# EAGLE library part ELE02_MA06-1 (library ele02)
PIN HEADER
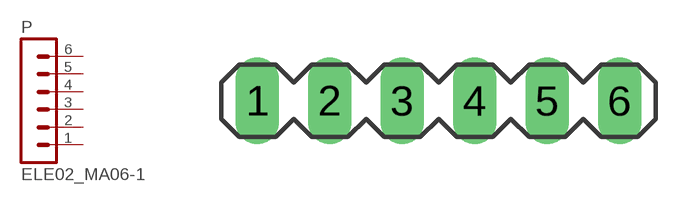
[diagram p6: symbol with the pads of ELE02_HC_BLUETOOTH; footprint ELE02_HC_BLUETOOTH]

Designator prefix P

## ELE02_MA06-1 (OC_FARNELL: unknown; OC_NEWARK: unknown)  [ELE02_HC_BLUETOOTH]
1  1  pas
2  2  pas
3  3  pas
4  4  pas
5  5  pas
6  6  pas

## Footprint ELE02_HC_BLUETOOTH (pad centres in mm)
PIN HEADER
drill 1.016 long: 1 -6.35,0; 2 -3.81,0; 3 -1.27,0; 4 1.27,0; 5 3.81,0; 6 6.35,0